# Altium schematic symbol library switch.SchLib: 4 symbols
Pins are listed as number, name and electrical type; pins without a type are passive.

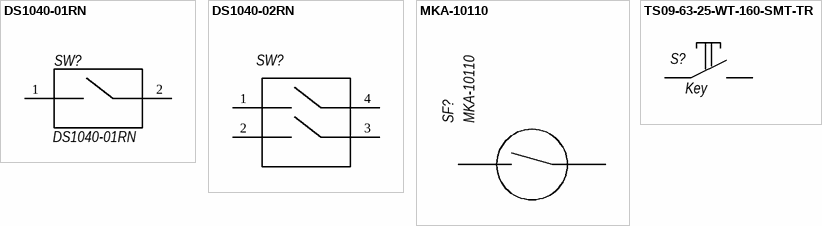
[diagram p0: symbols DS1040-01RN to TS09-63-25-WT-160-SMT-TR]

## DS1040-01RN
designator SW?
DS1040-01RN. DS-01 (SWD1-1); Value: DS1040-01RN
footprint DS1040-01RN
pins: 1, 2

## DS1040-02RN
designator SW?  (value not drawn)
DS1040-02RN. DS-02 (SWD1-2); Value: DS1040-02RN; Part Number: DS1040-02RN
footprint DS1040-02RN
pins: 1, 2, 3, 4

## MKA-10110
designator SF?
Glass Reed Switch; Manufacturer: RYAZAN METAL CERAMICS INSTRUMENTATION PLANT, JSC; Switching Carry current, A: 0.5; Switching voltage, V: 200; Pull-in range, AT: 7…40; Life expectancy, switching cycles x106: 0,1…5; Operating time including bounce, ms: 0,5; Switching power, W, VA: 10; Part Number: MKA-10110; Value: MKA-10110; Package: SOT-23; Temperature Range: -60…+125°C; Release time including bounce, ms: 0,5
footprint Glass Reed Switch (Reed Switches 10x2mm)
pins: 1, 2

## TS09-63-25-WT-160-SMT-TR
designator S?, comment Key
6.1 x 3.7 mm, 2.5 mm Actuator Height, 160 gf, White, Surface Mount, SPST, Tactile Switch; Part Number: TS09-63-25-WT-160-SMT-TR; Manufacturer: Bourns; BOM1: SMD 6.1 x 3.7 mm TS09-63-25-WT-160-SMT-TR; ValueBOM: TS09-63-25-WT-160-SMT-TR   Bourns; Package: SMD 6.1 x 3.7 mm; BOM2: SMD 6.1 x 3.7 mm TS09-63-25-WT-160-SMT-TR; Value: Key
footprint SW_TS09-63-25-WT-160-SMT-TR
pins: 1, 2